# Altium footprint library Revo_connector.PcbLib: 95 footprints (part 3 of 6)
Each footprint in its own frame and in the unit in brackets; x right, y up, seen from the top. Pads: shape width x height; smd on the part's side, far side on the other; paste and mask are expansions set on the pad; w line width, h text height; cw(c..) or ccw(c..) is an arc to the next point about the centre after c.
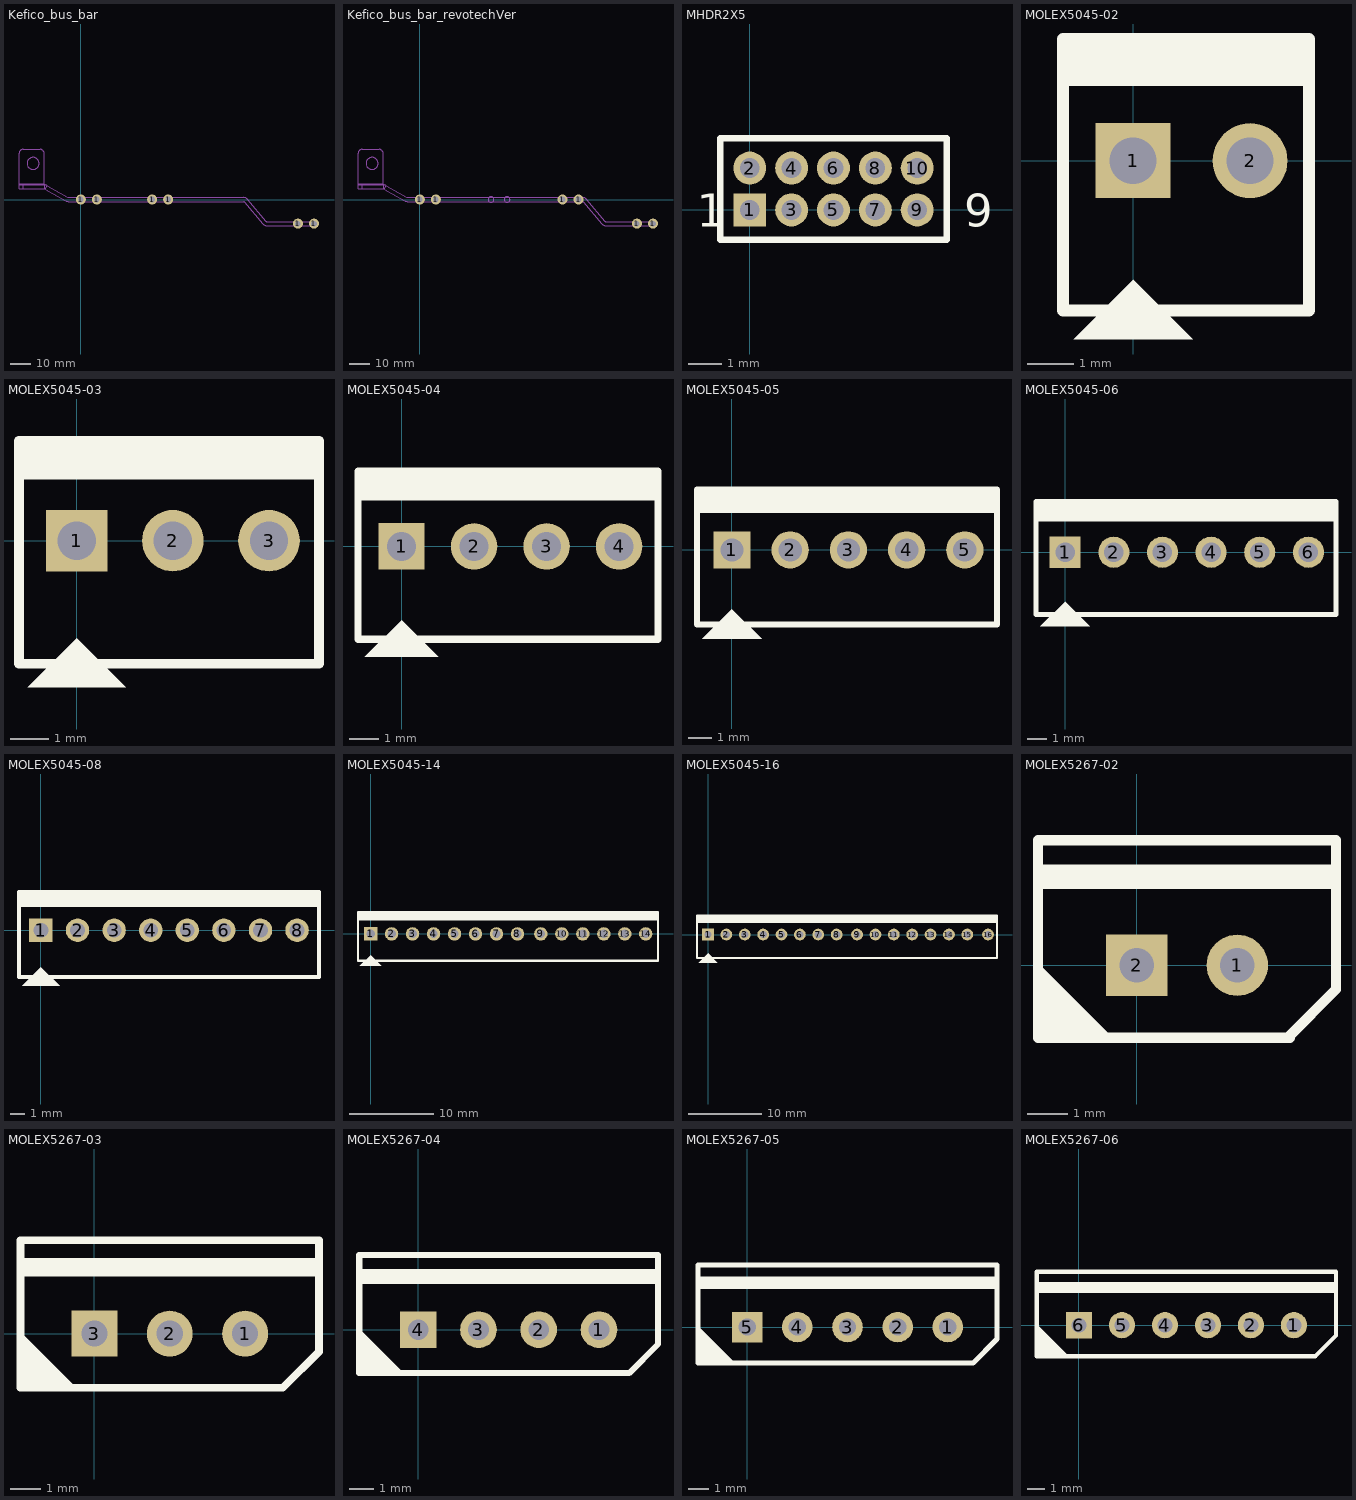
[diagram p2: the footprints below, top view; thin cyan lines are the x and y axes]

## Kefico_bus_bar [mm]
pads (6):
  round 5 hole 2.8: 1(0,0) 1(8,0) 1(35.5,0) 1(43.5,0) 1(108.048,-11.999) 1(116.048,-11.999)
Mechanical 1:
  circle w0.013: c-23.752,17.951 r3
  lines w0.013: -30.752,7.751 -18.252,7.751 ; -28.752,5.251 -28.752,7.251 ; -18.252,7.251 -18.252,22.951 ccw(c-20.252,22.951) -20.252,24.951 -28.752,24.951 ccw(c-28.752,22.951) -30.752,22.951 -30.752,7.251 ; -30.752,7.251 -17.886,7.251 ; -30.752,7.251 -30.752,5.251 -17.886,5.251 ; -17.886,5.251 cw(c-17.886,4.751) -17.636,5.184 ; -17.886,5.251 -17.886,7.251 ; -17.886,7.251 cw(c-17.886,4.751) -16.636,6.916 ; -17.886,7.251 cw(c-17.886,4.751) -16.636,6.916 ; -17.636,5.184 -16.636,6.916 ; -17.636,5.184 -7.507,-0.665 ccw(c-6.257,1.501) -6.257,-0.999 81.015,-0.999 cw(c81.015,-1.499) 81.398,-1.178 90.568,-12.106 ccw(c92.483,-10.499) 92.483,-12.999 116.848,-12.999 116.848,-10.999 92.483,-10.999 cw(c92.483,-10.499) 92.1,-10.821 82.93,0.108 ccw(c81.015,-1.499) 81.015,1.001 -6.257,1.001 cw(c-6.257,1.501) -6.507,1.068 -16.636,6.916
Mechanical 15:
  circle w0.013: c43.5,0 r1.4
  circle w0.013: c35.5,0 r1.4
  circle w0.013: c116.05,-12 r1.4
  circle w0.013: c108.05,-12 r1.4
  circle w0.013: c8,0 r1.4
  circle w0.013: c0,0 r1.4
3D body: height 0, standoff -1.6, extent -30.752,5.251 -18.252,24.951
3D body: height 5, standoff 0, extent -30.752,-12.999 116.848,7.251

## Kefico_bus_bar_revotechVer [mm]
pads (6):
  round 5 hole 2.8: 1(0,0) 1(8,0) 1(71,0) 1(79,0) 1(108.048,-11.999) 1(116.048,-11.999)
Mechanical 1:
  circle w0.013: c-23.752,17.951 r3
  lines w0.013: -30.752,7.751 -18.252,7.751 ; -28.752,5.251 -28.752,7.251 ; -18.252,7.251 -18.252,22.951 ccw(c-20.252,22.951) -20.252,24.951 -28.752,24.951 ccw(c-28.752,22.951) -30.752,22.951 -30.752,7.251 ; -30.752,7.251 -30.752,5.251 -17.886,5.251 ; -30.752,7.251 -17.886,7.251 ; -17.886,5.251 cw(c-17.886,4.751) -17.636,5.184 ; -17.886,5.251 -17.886,7.251 ; -17.886,7.251 cw(c-17.886,4.751) -16.636,6.916 ; -17.886,7.251 cw(c-17.886,4.751) -16.636,6.916 ; -17.636,5.184 -7.507,-0.665 ccw(c-6.257,1.501) -6.257,-0.999 81.015,-0.999 cw(c81.015,-1.499) 81.398,-1.178 90.568,-12.106 ccw(c92.483,-10.499) 92.483,-12.999 116.848,-12.999 116.848,-10.999 92.483,-10.999 cw(c92.483,-10.499) 92.1,-10.821 82.93,0.108 ccw(c81.015,-1.499) 81.015,1.001 -6.257,1.001 cw(c-6.257,1.501) -6.507,1.068 -16.636,6.916 ; -17.636,5.184 -16.636,6.916
Mechanical 15:
  circle w0.013: c0,0 r1.4
  circle w0.013: c8,0 r1.4
  circle w0.013: c108.05,-12 r1.4
  circle w0.013: c116.05,-12 r1.4
  circle w0.013: c35.5,0 r1.4
  circle w0.013: c43.5,0 r1.4
3D body: height 5, standoff 0, extent -30.752,-12.999 116.848,7.251
3D body: height 0, standoff -1.6, extent -30.752,5.251 -18.252,24.951

## MHDR2X5 [mm]
pads (10):
  rect 1x1 hole 0.6: 1(0,0)
  round 1 hole 0.6: 2(0,1.27) 3(1.27,0) 4(1.27,1.27) 5(2.54,0) 6(2.54,1.27) 7(3.81,0) 8(3.81,1.27) 9(5.08,0) 10(5.08,1.27)
Top Overlay:
  lines w0.2: -0.9,-0.9 -0.9,2.17 5.98,2.17 5.98,-0.9 -0.9,-0.9
  text "9" at 6.5,-0.508 h1
  text "1" at -1.6,-0.508 h1

## MOLEX5045-02 [mm]
pads (2):
  rect 1.6x1.6 hole 1: 1(0,0)
  round 1.6 hole 1: 2(2.5,0)
Top Overlay:
  region: 0,-2.54 -1.27,-3.81 1.27,-3.81
  region: -1.4,1.6 3.72,1.6 3.72,2.6 -1.4,2.6
  lines w0.254: -1.5,-3.2 -1.5,2.6 3.72,2.6 ; -1.48,-3.2 3.72,-3.2 ; 3.76,-3.2 3.76,2.6

## MOLEX5045-03 [mm]
pads (3):
  rect 1.6x1.6 hole 1: 1(0,0)
  round 1.6 hole 1: 2(2.5,0) 3(5,0)
Top Overlay:
  region: 0,-2.54 -1.27,-3.81 1.27,-3.81
  region: -1.4,1.6 6.22,1.6 6.22,2.6 -1.4,2.6
  lines w0.254: -1.5,-3.2 -1.5,2.6 6.22,2.6 ; -1.48,-3.2 6.22,-3.2 ; 6.3,-3.2 6.3,2.6

## MOLEX5045-04 [mm]
pads (4):
  rect 1.6x1.6 hole 1: 1(0,0)
  round 1.6 hole 1: 2(2.5,0) 3(5,0) 4(7.5,0)
Top Overlay:
  region: 0,-2.54 -1.27,-3.81 1.27,-3.81
  region: -1.4,1.6 8.82,1.6 8.82,2.6 -1.4,2.6
  lines w0.254: -1.5,-3.2 -1.5,2.6 8.82,2.6 ; -1.48,-3.2 8.82,-3.2 ; 8.84,-3.2 8.84,2.6

## MOLEX5045-05 [mm]
pads (5):
  rect 1.6x1.6 hole 1: 1(0,0)
  round 1.6 hole 1: 2(2.5,0) 3(5,0) 4(7.5,0) 5(10,0)
Top Overlay:
  region: 0,-2.54 -1.27,-3.81 1.27,-3.81
  region: -1.4,1.6 11.32,1.6 11.32,2.6 -1.4,2.6
  lines w0.254: -1.5,-3.2 -1.5,2.6 11.32,2.6 ; -1.48,-3.2 11.32,-3.2 ; 11.38,-3.2 11.38,2.6

## MOLEX5045-06 [mm]
pads (6):
  rect 1.6x1.6 hole 1: 1(0,0)
  round 1.6 hole 1: 2(2.5,0) 3(5,0) 4(7.5,0) 5(10,0) 6(12.5,0)
Top Overlay:
  region: -1.4,1.6 13.92,1.6 13.92,2.6 -1.4,2.6
  region: 0,-2.54 -1.27,-3.81 1.27,-3.81
  lines w0.254: -1.5,-3.2 13.92,-3.2 13.92,2.6 -1.5,2.6 -1.5,-3.2

## MOLEX5045-08 [mm]
pads (8):
  rect 1.6x1.6 hole 1: 1(0,0)
  round 1.6 hole 1: 2(2.5,0) 3(5,0) 4(7.5,0) 5(10,0) 6(12.5,0) 7(15,0) 8(17.5,0)
Top Overlay:
  region: -1.4,1.6 19,1.6 19,2.6 -1.4,2.6
  region: 0,-2.54 -1.27,-3.81 1.27,-3.81
  lines w0.254: -1.5,-3.2 19,-3.2 19,2.6 -1.5,2.6 -1.5,-3.2

## MOLEX5045-14 [mm]
pads (14):
  rect 1.6x1.6 hole 1: 1(0,0)
  round 1.6 hole 1: 2(2.5,0) 3(5,0) 4(7.5,0) 5(10,0) 6(12.5,0) 7(15,0) 8(17.5,0) 9(20.28,0) 10(22.78,0) 11(25.28,0) 12(27.78,0) 13(30.28,0) 14(32.78,0)
Top Overlay:
  region: 13.84,1.6 34.24,1.6 34.24,2.6 13.84,2.6
  region: -1.4,1.6 19,1.6 19,2.6 -1.4,2.6
  region: 0,-2.54 -1.27,-3.81 1.27,-3.81
  lines w0.254: -1.5,-3.2 34.24,-3.2 34.24,2.6 -1.5,2.6 -1.5,-3.2

## MOLEX5045-16 [mm]
pads (16):
  rect 1.6x1.6 hole 1: 1(0,0)
  round 1.6 hole 1: 2(2.5,0) 3(5,0) 4(7.5,0) 5(10,0) 6(12.5,0) 7(15,0) 8(17.5,0) 9(20.28,0) 10(22.78,0) 11(25.28,0) 12(27.78,0) 13(30.28,0) 14(32.78,0) 15(35.28,0) 16(38.1,0)
Top Overlay:
  region: -1.4,1.6 19,1.6 19,2.6 -1.4,2.6
  region: 18.92,1.6 39.32,1.6 39.32,2.6 18.92,2.6
  region: 0,-2.54 -1.27,-3.81 1.27,-3.81
  lines w0.254: -1.5,-3.2 39.32,-3.2 39.32,2.6 -1.5,2.6 -1.5,-3.2

## MOLEX5267-02 [mil]
pads (2):
  round 60 hole 34: 1(98.43,0)
  rect 60x60 hole 34: 2(0,0)
Top Overlay:
  region: -94.49,-70.87 -23.62,-70.87 -94.49,0
  region: -98.43,74.8 192.91,74.8 192.91,98.43 -98.43,98.43
  lines w10: -96.46,-70.87 -96.46,122.05 192.91,122.05 ; -94.49,-70.87 149.61,-70.87 ; 147.64,-70.87 194.88,-23.62 194.88,122.05
3D body "022035025.stp": height 234.25, standoff -135.83, extent -96.45,-75.98 194.89,116.93

## MOLEX5267-03 [mil]
pads (3):
  round 60 hole 34: 1(196.85,0) 2(98.43,0)
  rect 60x60 hole 34: 3(0,0)
Top Overlay:
  region: -94.49,-70.87 -23.62,-70.87 -94.49,0
  region: -98.43,74.8 291.34,74.8 291.34,98.43 -98.43,98.43
  lines w10: -96.46,-70.87 -96.46,122.05 291.34,122.05 ; -94.49,-70.87 244.09,-70.87 ; 246.06,-70.87 293.31,-23.62 293.31,122.05
3D body "022035035.stp": height 234.25, standoff -135.83, extent -96.45,-75.98 293.32,116.93

## MOLEX5267-04 [mil]
pads (4):
  round 60 hole 34: 1(295.28,0) 2(196.85,0) 3(98.43,0)
  rect 60x60 hole 34: 4(0,0)
Top Overlay:
  region: -94.49,-70.87 -23.62,-70.87 -94.49,0
  region: -98.43,74.8 389.76,74.8 389.76,98.43 -98.43,98.43
  lines w10: -96.46,-70.87 -96.46,122.05 389.76,122.05 ; -93.7,-70.87 342.52,-70.87 ; 344.49,-70.87 391.73,-23.62 391.73,122.05
3D body "022035045.stp": height 234.25, standoff -135.83, extent -96.46,-66.14 391.73,126.77

## MOLEX5267-05 [mil]
pads (5):
  round 60 hole 34: 1(393.7,0) 2(295.28,0) 3(196.85,0) 4(98.43,0)
  rect 60x60 hole 34: 5(0,0)
Top Overlay:
  region: -94.49,-70.87 -23.62,-70.87 -94.49,0
  region: -98.43,74.8 488.19,74.8 488.19,98.43 -98.43,98.43
  lines w10: -96.46,-70.87 -96.46,122.05 488.19,122.05 ; -93.7,-70.87 440.94,-70.87 ; 442.91,-70.87 490.16,-23.62 490.16,122.05
3D body "022035055.stp": height 234.25, standoff -135.83, extent -96.46,-68.9 490.16,124.02

## MOLEX5267-06 [mil]
pads (6):
  round 60 hole 34: 1(492.13,0) 2(393.7,0) 3(295.28,0) 4(196.85,0) 5(98.43,0)
  rect 60x60 hole 34: 6(0,0)
Top Overlay:
  region: -94.49,-70.87 -23.62,-70.87 -94.49,0
  region: -98.43,74.8 586.61,74.8 586.61,98.43 -98.43,98.43
  lines w10: -96.46,-70.87 -96.46,122.05 586.61,122.05 ; -93.7,-70.87 539.37,-70.87 ; 541.34,-70.87 588.58,-23.62 588.58,122.05
3D body "022035065.stp": height 234.25, standoff -135.83, extent -96.46,-71.07 588.58,121.85